# Altium footprint library Vishay.PcbLib: 24 footprints (part 1 of 2)
Each footprint in its own frame and in the unit in brackets; x right, y up, seen from the top. Pads: shape width x height; smd on the part's side, far side on the other; paste and mask are expansions set on the pad; w line width, h text height; cw(c..) or ccw(c..) is an arc to the next point about the centre after c.
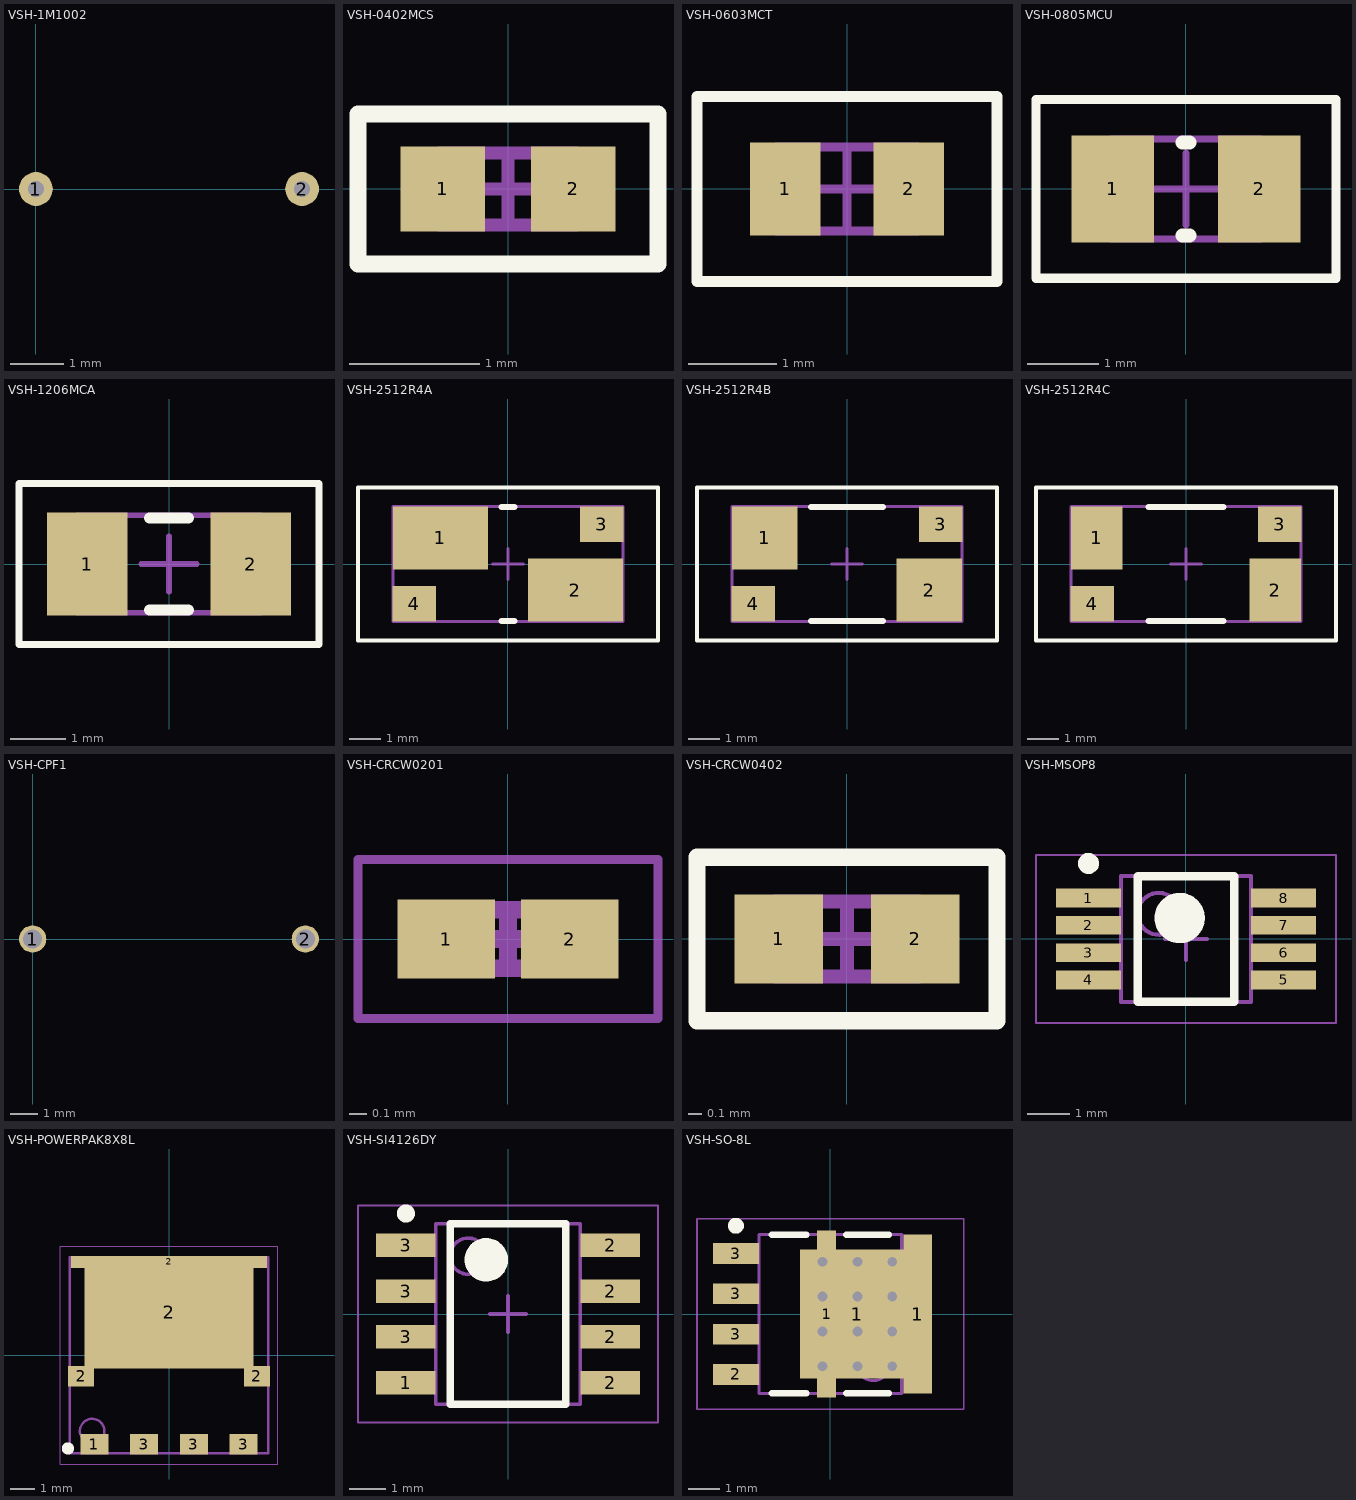
[diagram p0: the footprints below, top view; thin cyan lines are the x and y axes]

## VSH-1M1002 [mm]
pads (2):
  round 0.635 hole 0.3: 1(0,0) 2(5,0)

## VSH-0402MCS [mm] "Chip Resistor, 2-Leads, Body 1.00x0.50mm, IPC Low Density"
height 0.37
pads (2):
  rect 0.65x0.65 smd: 1(-0.5,0) 2(0.5,0)
Top Overlay:
  lines w0.127: -1.15,-0.575 1.15,-0.575 1.15,0.575 -1.15,0.575 -1.15,-0.575
Mechanical 2:
  lines w0.1: -0.525,-0.275 -0.525,0.275 0.525,0.275 0.525,-0.275 -0.525,-0.275
Mechanical 4:
  lines w0.05: -1.15,-0.575 1.15,-0.575 1.15,0.575 -1.15,0.575 -1.15,-0.575
  lines w0.1: -0.275,0 0.275,0 ; 0,-0.275 0,0.275
3D body: height 0.37, standoff 0, extent 0.325,-0.275 0.525,0.275
3D body: height 0.37, standoff 0, extent -0.325,-0.275 0.325,0.275
3D body: height 0.37, standoff 0, extent -0.525,-0.275 -0.325,0.275

## VSH-0603MCT [mm] "Chip Resistor, 2-Leads, Body 1.55x0.85mm, IPC Low Density"
height 0.55
pads (2):
  rect 0.8x1.05 smd: 1(-0.7,0) 2(0.7,0)
Top Overlay:
  lines w0.127: -1.7,-1.05 -1.7,1.05 1.7,1.05 1.7,-1.05 -1.7,-1.05
Mechanical 2:
  lines w0.1: -0.8,-0.475 0.8,-0.475 0.8,0.475 -0.8,0.475 -0.8,-0.475
Mechanical 4:
  lines w0.05: -1.7,-1.05 1.7,-1.05 1.7,1.05 -1.7,1.05 -1.7,-1.05
  lines w0.1: -0.475,0 0.475,0 ; 0,-0.475 0,0.475
3D body: height 0.55, standoff 0, extent 0.52,-0.475 0.8,0.475
3D body: height 0.55, standoff 0, extent -0.52,-0.475 0.52,0.475
3D body: height 0.55, standoff 0, extent -0.8,-0.475 -0.52,0.475

## VSH-0805MCU [mm] "Chip Resistor, 2-Leads, Body 2.00x1.25mm, IPC Low Density"
height 0.55
pads (2):
  rect 1.15x1.5 smd: 1(-1.025,0) 2(1.025,0)
Top Overlay:
  lines w0.127: -2.1,-1.25 -2.1,1.25 2.1,1.25 2.1,-1.25 -2.1,-1.25
  lines w0.2: -0.05,-0.65 0.05,-0.65 ; -0.05,0.65 0.05,0.65
Mechanical 2:
  lines w0.1: -1.05,-0.7 -1.05,0.7 1.05,0.7 1.05,-0.7 -1.05,-0.7
Mechanical 4:
  lines w0.05: -2.1,-1.25 -2.1,1.25 2.1,1.25 2.1,-1.25 -2.1,-1.25
  lines w0.1: -0.5,0 0.5,0 ; 0,-0.5 0,0.5
3D body: height 0.55, standoff 0, extent 0.7,-0.7 1.05,0.7
3D body: height 0.55, standoff 0, extent -1.05,-0.7 -0.7,0.7
3D body: height 0.55, standoff 0, extent -0.7,-0.7 0.7,0.7

## VSH-1206MCA [mm] "Chip Resistor, 2-Leads, Body 3.15x1.60mm, IPC Low Density"
height 0.65
pads (2):
  rect 1.45x1.85 smd: 1(-1.475,0) 2(1.475,0)
Top Overlay:
  lines w0.127: -2.7,-1.45 -2.7,1.45 2.7,1.45 2.7,-1.45 -2.7,-1.45
  lines w0.2: -0.35,-0.825 0.35,-0.825 ; -0.35,0.825 0.35,0.825
Mechanical 2:
  lines w0.1: -1.65,-0.875 -1.65,0.875 1.65,0.875 1.65,-0.875 -1.65,-0.875
Mechanical 4:
  lines w0.05: -2.7,-1.45 -2.7,1.45 2.7,1.45 2.7,-1.45 -2.7,-1.45
  lines w0.1: -0.5,0 0.5,0 ; 0,-0.5 0,0.5
3D body: height 0.65, standoff 0, extent 1.15,-0.875 1.65,0.875
3D body: height 0.65, standoff 0, extent -1.15,-0.875 1.15,0.875
3D body: height 0.65, standoff 0, extent -1.65,-0.875 -1.15,0.875

## VSH-2512R4A [mm]
pads (4):
  rect 3.05x2.01 smd: 1(-2.16,0.835) 2(2.16,-0.835)
  rect 1.39x1.14 smd: 3(2.999,1.27) 4(-2.999,-1.27)
Top Overlay:
  lines w0.127: -4.8,-2.45 4.8,-2.45 4.8,2.45 -4.8,2.45 -4.8,-2.45
  lines w0.2: -0.2,-1.825 0.2,-1.825 ; -0.2,1.825 0.2,1.825
Mechanical 2:
  lines w0.1: -3.685,-1.84 -3.685,1.84 3.685,1.84 3.685,-1.84 -3.685,-1.84
Mechanical 4:
  lines w0.05: -4.8,-2.45 -4.8,2.45 4.8,2.45 4.8,-2.45 -4.8,-2.45
  lines w0.1: -0.5,0 0.5,0 ; 0,-0.5 0,0.5

## VSH-2512R4B [mm]
pads (4):
  rect 2.1x2.01 smd: 1(-2.635,0.835) 2(2.635,-0.835)
  rect 1.39x1.14 smd: 3(2.999,1.27) 4(-2.999,-1.27)
Top Overlay:
  lines w0.127: -4.8,-2.45 -4.8,2.45 4.8,2.45 4.8,-2.45 -4.8,-2.45
  lines w0.2: -1.15,-1.825 1.15,-1.825 ; -1.15,1.825 1.15,1.825
Mechanical 2:
  lines w0.1: -3.685,-1.84 -3.685,1.84 3.685,1.84 3.685,-1.84 -3.685,-1.84
Mechanical 4:
  lines w0.05: -4.8,-2.45 -4.8,2.45 4.8,2.45 4.8,-2.45 -4.8,-2.45
  lines w0.1: -0.5,0 0.5,0 ; 0,-0.5 0,0.5

## VSH-2512R4C [mm]
pads (4):
  rect 1.65x2.01 smd: 1(-2.855,0.835) 2(2.855,-0.835)
  rect 1.39x1.14 smd: 3(2.999,1.27) 4(-2.999,-1.27)
Top Overlay:
  lines w0.127: -4.8,-2.45 4.8,-2.45 4.8,2.45 -4.8,2.45 -4.8,-2.45
  lines w0.2: -1.2,-1.825 1.2,-1.825 ; -1.2,1.825 1.2,1.825
Mechanical 2:
  lines w0.1: -3.685,-1.84 3.685,-1.84 3.685,1.84 -3.685,1.84 -3.685,-1.84
Mechanical 4:
  lines w0.05: -4.8,-2.45 -4.8,2.45 4.8,2.45 4.8,-2.45 -4.8,-2.45
  lines w0.1: -0.5,0 0.5,0 ; 0,-0.5 0,0.5
3D body "crm2512-jx-r300elf.SLDPRT": height 0.61, standoff 0.01, extent -3.15,-1.55 3.15,1.55

## VSH-CPF1 [mm] "RESISTOR METAL FILM 1W 1.00K OHM"
pads (2):
  round 1 hole 0.7: 1(0,0) 2(10,0)
3D body "Resistor TH horizontal 10,16.stp": height 3.81, standoff -0.7, extent -0.225,-1.13 10.284,1.185
3D body: height 0.25, standoff -24.59, extent 2.54,2.286 2.54,2.286

## VSH-CRCW0201 [mm] "Chip Resistor, 2-Leads, Body 0.60x0.30mm, IPC Low Density"
height 0.26
pads (2):
  rect 0.55x0.45 smd: 1(-0.35,0) 2(0.35,0)
Top Courtyard:
  lines w0.05: -0.85,-0.45 0.85,-0.45 0.85,0.45 -0.85,0.45 -0.85,-0.45
  lines w0.1: -0.165,0 0.165,0 ; 0,-0.165 0,0.165
Mechanical 13:
  lines w0.1: -0.315,-0.165 0.315,-0.165 0.315,0.165 -0.315,0.165 -0.315,-0.165
3D body "RESC0603X03M.step": height 0.26, standoff 0, extent -0.315,-0.165 0.315,0.165

## VSH-CRCW0402 [mm] "Chip Resistor, 2-Leads, Body 1.00x0.50mm, IPC Low Density"
height 0.4
pads (2):
  rect 0.65x0.65 smd: 1(-0.5,0) 2(0.5,0)
Top Overlay:
  lines w0.127: -1.1,-0.6 -1.1,0.6 1.1,0.6 1.1,-0.6 -1.1,-0.6
Mechanical 2:
  lines w0.1: -0.525,-0.275 -0.525,0.275 0.525,0.275 0.525,-0.275 -0.525,-0.275
Mechanical 4:
  lines w0.05: -1.1,-0.6 1.1,-0.6 1.1,0.6 -1.1,0.6 -1.1,-0.6
  lines w0.1: -0.275,0 0.275,0 ; 0,-0.275 0,0.275
3D body "VSH-CRCW0402.step": height 0.4, standoff 0, extent -0.525,-0.275 0.525,0.275

## VSH-MSOP8 [mm] "TSOP, 8-Leads, Body 3.00x3.00mm, Pitch 0.65mm, IPC Low Density"
height 1.1
pads (8):
  rect 1.55x0.446 smd: 1(-2.325,0.975) 2(-2.325,0.325) 3(-2.325,-0.325) 4(-2.325,-0.975) 5(2.325,-0.975) 6(2.325,-0.325) 7(2.325,0.325) 8(2.325,0.975)
Top Overlay:
  circle w0.25: c-2.325,1.8 r0.125
  circle w0.6: c-0.15,0.5 r0.3
  lines w0.2: -1.15,-1.5 -1.15,1.5 1.15,1.5 1.15,-1.5 -1.15,-1.5
Mechanical 2:
  circle w0.1: c-0.65,0.6 r0.5
  lines w0.1: -1.55,-1.5 1.55,-1.5 1.55,1.5 -1.55,1.5 -1.55,-1.5
Mechanical 4:
  lines w0.05: -3.575,-2 3.575,-2 3.575,2 -3.575,2 -3.575,-2
  lines w0.1: -0.5,0 0.5,0 ; 0,-0.5 0,0.5
3D body: height 1.1, standoff 0.05, extent -1.55,-1.5 1.55,1.5

## VSH-POWERPAK8X8L [mm]
pads (8):
  rect 1.15x0.82 smd: 1(-3.045,-3.64) 3(-1.015,-3.64) 3(1.015,-3.64) 3(3.045,-3.64)
  rect 1.07x0.85 smd: 2(-3.59,-0.865) 2(3.59,-0.865)
  rect 6.9x4.59 smd: 2(0,1.755)
  rect 8x0.5 smd: 2(0,3.8)
Top Overlay:
  circle w0.25: c-4.125,-3.81 r0.125
Mechanical 4:
  circle w0.1: c-3.136,-3.1 r0.5
  lines w0.05: -4.445,-4.445 -4.445,4.445 4.445,4.445 4.445,-4.445 -4.445,-4.445
  lines w0.1: -0.5,0 0.5,0 ; 0,-0.5 0,0.5 ; -4.05,-4 -4.05,4 4.05,4 4.05,-4 -4.05,-4
3D body "PowerPAK 8x8L.STEP": height 1.9, standoff -0.12, extent -4,-4.063 4,4.063

## VSH-SI4126DY [mm] "SOIC, 8-Leads, Body 4.90x3.90mm, Pitch 1.27mm, IPC Low Density"
height 1.75
pads (8):
  rect 1.65x0.65 smd: 1(-2.825,-1.905) 2(2.825,-1.905) 2(2.825,-0.635) 2(2.825,0.635) 2(2.825,1.905) 3(-2.825,-0.635) 3(-2.825,0.635) 3(-2.825,1.905)
Top Overlay:
  circle w0.6: c-0.6,1.5 r0.3
  circle w0.25: c-2.825,2.78 r0.125
  lines w0.2: -1.6,-2.5 1.6,-2.5 1.6,2.5 -1.6,2.5 -1.6,-2.5
Mechanical 2:
  circle w0.1: c-1.1,1.6 r0.5
  lines w0.1: -2,-2.5 2,-2.5 2,2.5 -2,2.5 -2,-2.5
Mechanical 4:
  lines w0.05: -4.15,-3 4.15,-3 4.15,3 -4.15,3 -4.15,-3
  lines w0.1: -0.5,0 0.5,0 ; 0,-0.5 0,0.5
3D body "VSH-MS-012.step": height 1.75, standoff 0, extent -3,-2.5 3,2.5

## VSH-SISC06DN [mm]

## VSH-SO-8L [mm] "SOIC, 8-Leads, Body 4.90x4.37mm, Pitch 1.27mm, Thermal Pad 4.07x3.63mm, IPC Low Density"
height 1.14
pads (7):
  rect 0.61x5.251 smd: 1(-0.12,0)
  rect 3.63x4.07 smd: 1(0.855,0)
  rect 0.902x5 smd: 1(2.75,0)
  rect 1.45x0.65 smd: 2(-2.975,-1.905) 3(-2.975,-0.635) 3(-2.975,0.635) 3(-2.975,1.905)
via 1.955,-1.65 diameter 0.61 hole 0.305
via 0.855,-1.65 diameter 0.61 hole 0.305
via -0.245,-1.65 diameter 0.61 hole 0.305
via 1.955,-0.55 diameter 0.61 hole 0.305
via 0.855,-0.55 diameter 0.61 hole 0.305
via -0.245,-0.55 diameter 0.61 hole 0.305
via 1.955,0.55 diameter 0.61 hole 0.305
via 0.855,0.55 diameter 0.61 hole 0.305
via -0.245,0.55 diameter 0.61 hole 0.305
via 1.955,1.65 diameter 0.61 hole 0.305
via 0.855,1.65 diameter 0.61 hole 0.305
via -0.245,1.65 diameter 0.61 hole 0.305
Top Overlay:
  circle w0.25: c-2.975,2.78 r0.125
  lines w0.2: -1.85,-2.5 -0.75,-2.5 ; -1.85,2.5 -0.75,2.5 ; 0.5,-2.5 1.85,-2.5 ; 0.5,2.5 1.85,2.5
Mechanical 2:
  circle w0.1: c1.35,-1.6 r0.5
  lines w0.1: -2.25,-2.5 -2.25,2.5 2.25,2.5 2.25,-2.5 -2.25,-2.5
Mechanical 4:
  lines w0.05: -4.2,-3 -4.2,3 4.2,3 4.2,-3 -4.2,-3
  lines w0.1: -0.5,0 0.5,0 ; 0,-0.5 0,0.5
3D body "User Library-PowerPAK_SO-8L_SINGLE.STEP": height 1.07, standoff 0, extent -3.255,-2.56 2.895,2.56